# Altium footprint library PcbLib1.PcbLib: 37 footprints (part 3 of 3)
Each footprint in its own frame and in the unit in brackets; x right, y up, seen from the top. Pads: shape width x height; smd on the part's side, far side on the other; paste and mask are expansions set on the pad; w line width, h text height; cw(c..) or ccw(c..) is an arc to the next point about the centre after c.
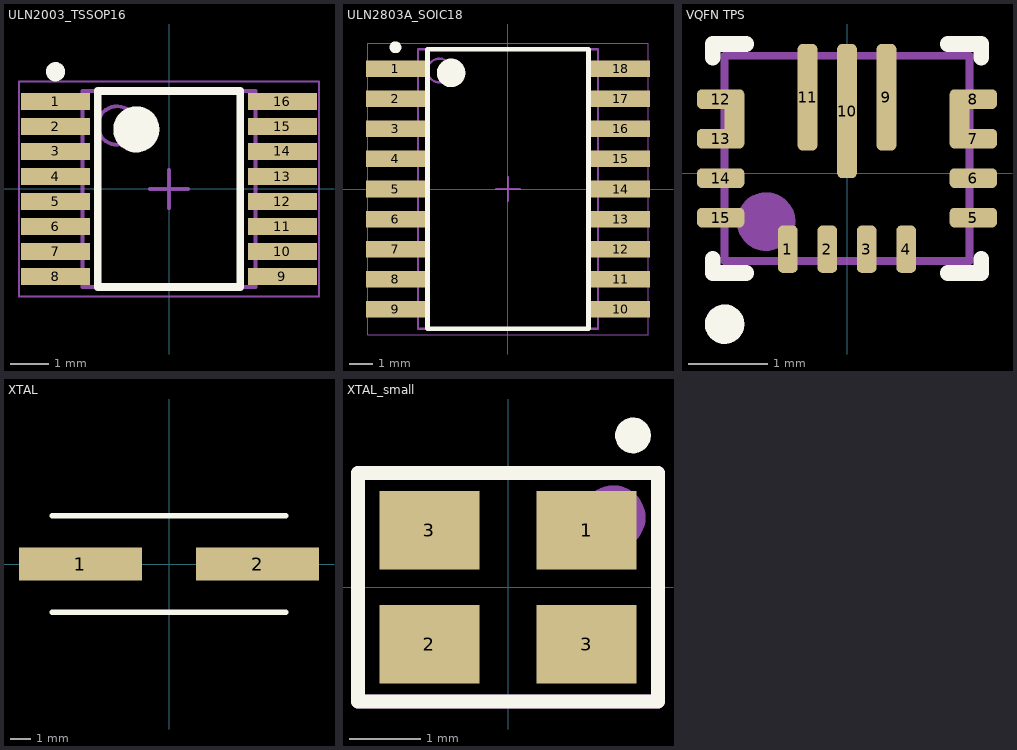
[diagram p2: the footprints below, top view; thin cyan lines are the x and y axes]

## ULN2003_TSSOP16 [mm] "TSSOP, 16-Leads, Body 5,00x4,40mm, Pitch 0,65mm, IPC Medium Density"
height 1.2
pads (16):
  rect 1.8x0.45 smd: 1(-2.95,2.275) 2(-2.95,1.625) 3(-2.95,0.975) 4(-2.95,0.325) 5(-2.95,-0.325) 6(-2.95,-0.975) 7(-2.95,-1.625) 8(-2.95,-2.275) 9(2.95,-2.275) 10(2.95,-1.625) 11(2.95,-0.975) 12(2.95,-0.325) 13(2.95,0.325) 14(2.95,0.975) 15(2.95,1.625) 16(2.95,2.275)
Top Overlay:
  circle w0.25: c-2.95,3.05 r0.125
  circle w0.6: c-0.85,1.55 r0.3
  lines w0.2: -1.85,-2.55 -1.85,2.55 1.85,2.55 1.85,-2.55 -1.85,-2.55
Mechanical 13:
  circle w0.1: c-1.35,1.65 r0.5
  lines w0.1: -2.25,-2.55 -2.25,2.55 2.25,2.55 2.25,-2.55 -2.25,-2.55
Mechanical 15:
  lines w0.05: -3.9,-2.8 -3.9,2.8 3.9,2.8 3.9,-2.8 -3.9,-2.8
  lines w0.1: -0.5,0 0.5,0 ; 0,-0.5 0,0.5
3D body: height 1.2, standoff 0.05, extent -2.25,-2.55 2.25,2.55

## ULN2803A_SOIC18 [mm] "SOIC, 18-Leads, Body 11,55x7,50mm, Pitch 1,27mm, IPC Medium Density"
height 2.65
pads (18):
  rect 2.5x0.7 smd: 1(-4.75,5.08) 2(-4.75,3.81) 3(-4.75,2.54) 4(-4.75,1.27) 5(-4.75,0) 6(-4.75,-1.27) 7(-4.75,-2.54) 8(-4.75,-3.81) 9(-4.75,-5.08) 10(4.75,-5.08) 11(4.75,-3.81) 12(4.75,-2.54) 13(4.75,-1.27) 14(4.75,0) 15(4.75,1.27) 16(4.75,2.54) 17(4.75,3.81) 18(4.75,5.08)
Top Overlay:
  circle w0.6: c-2.4,4.9 r0.3
  circle w0.25: c-4.75,5.98 r0.125
  lines w0.2: -3.4,-5.9 3.4,-5.9 3.4,5.9 -3.4,5.9 -3.4,-5.9
Mechanical 15:
  lines w0.05: -5.925,-6.15 5.925,-6.15 5.925,6.15 -5.925,6.15 -5.925,-6.15
  lines w0.1: -0.5,0 0.5,0 ; 0,-0.5 0,0.5
Mechanical 29:
  circle w0.1: c-2.9,5 r0.5
  lines w0.1: -3.8,-5.9 3.8,-5.9 3.8,5.9 -3.8,5.9 -3.8,-5.9
  text ".Designator" at -2,-0.5 h1.2
3D body: height 2.65, standoff 0.1, extent -3.8,-5.9 3.8,5.9

## VQFN TPS [mm]
pads (17):
  rrect50% 0.25x0.6 smd: 1(-0.75,-0.962) 2(-0.25,-0.962) 3(0.25,-0.962) 4(0.75,-0.962)
  rrect50% 0.6x0.25 smd: 5(1.6,-0.562) 6(1.6,-0.062) 7(1.6,0.438) 8(1.6,0.938) 12(-1.6,0.938) 13(-1.6,0.438) 14(-1.6,-0.062) 15(-1.6,-0.562)
  rrect50% 0.25x1.35 smd: 9(0.5,0.963) 11(-0.5,0.963)
  rrect50% 0.25x1.7 smd: 10(0,0.788)
  rrect50% 0.25x0.7 smd: ""(-1.425,0.688) ""(1.425,0.688)
Top Overlay:
  circle w0.25: c-1.55,-1.912 r0.125
  lines w0.2: -1.7,-1.087 -1.7,-1.262 -1.275,-1.262 ; -1.7,1.463 -1.7,1.638 -1.275,1.638 ; 1.275,-1.262 1.7,-1.262 1.7,-1.087 ; 1.275,1.638 1.7,1.638 1.7,1.463
Mechanical 29:
  circle w0.5: c-1.025,-0.612 r0.12
  lines w0.1: -1.55,-1.112 -1.55,1.488 1.55,1.488 1.55,-1.112 -1.55,-1.112
  text ".Designator" at -0.889,0 h0.8
3D body "VQFN TPS.step": height 1, standoff 0, extent -1.56,-1.122 1.56,1.498

## XTAL [mm] "11.4 X 4.7 mm SMD crystal"
height 4.3
pads (2):
  rect 6x1.6 smd: 1(-4.318,0) 2(4.318,0)
Top Overlay:
  lines w0.254: -5.7,-2.35 5.7,-2.35 ; -5.7,2.35 5.7,2.35
3D body: height 4.3, standoff 0.1, extent -5.715,-2.413 5.715,2.413

## XTAL_small [mm] "3.2 X 2.5 mm SMD crystal"
height 0.6
pads (4):
  rect 1.4x1.1 smd: 1(1.1,0.8) 2(-1.1,-0.8) 3(-1.1,0.8) 3(1.1,-0.8)
Top Overlay:
  circle w0.25: c1.75,2.125 r0.125
  lines w0.2: -2.1,-1.6 2.1,-1.6 2.1,1.6 -2.1,1.6 -2.1,-1.6
Mechanical 29:
  circle w0.5: c1.475,0.975 r0.2
  lines w0.2: -2.1,-1.6 -2.1,1.6 2.1,1.6 2.1,-1.25 2.1,-1.6 -2.1,-1.6
  text ".Designator" at -1.575,-1.025 h2
3D body: height 0.7, standoff 0, extent -1.6,-1.25 1.6,1.25